# Altium footprint library AMSComponents.PcbLib: 22 footprints (part 2 of 2)
Each footprint in its own frame and in the unit in brackets; x right, y up, seen from the top. Pads: shape width x height; smd on the part's side, far side on the other; paste and mask are expansions set on the pad; w line width, h text height; cw(c..) or ccw(c..) is an arc to the next point about the centre after c.
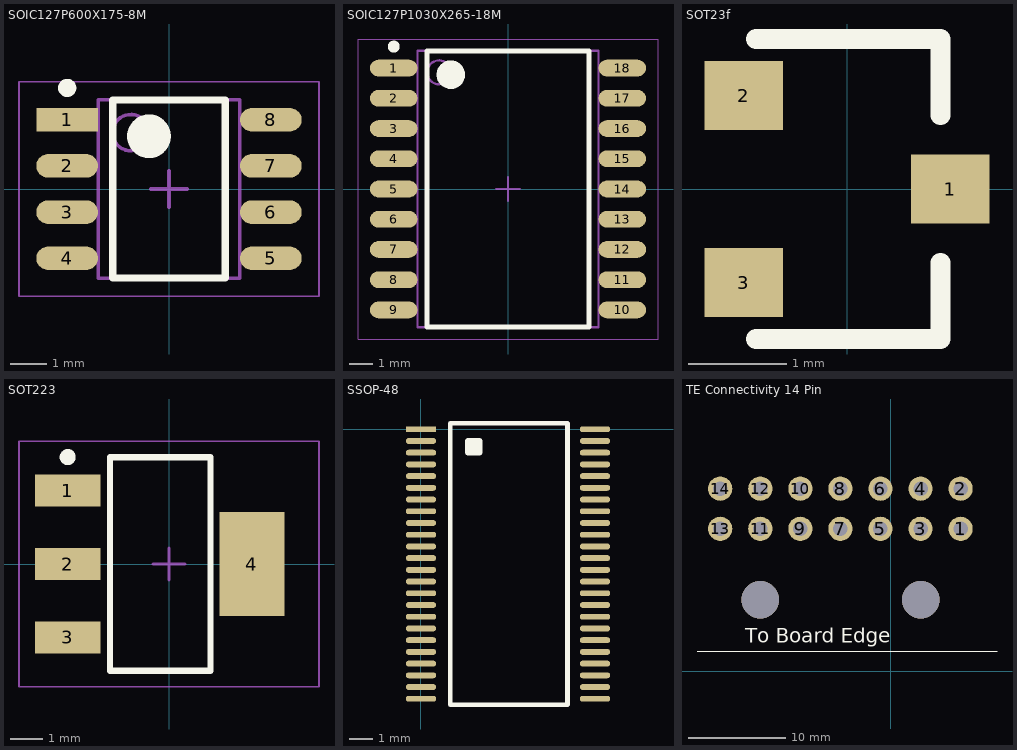
[diagram p1: the footprints below, top view; thin cyan lines are the x and y axes]

## SOIC127P600X175-8M [mm] "SOIC, 8-Leads, Body 4.90x3.90mm, Pitch 1.27mm, IPC Low Density"
height 1.75
pads (8):
  rect 1.7x0.65 smd: 1(-2.8,1.905)
  oval 1.7x0.65 smd: 2(-2.8,0.635) 3(-2.8,-0.635) 4(-2.8,-1.905) 5(2.8,-1.905) 6(2.8,-0.635) 7(2.8,0.635) 8(2.8,1.905)
Top Overlay:
  circle w0.25: c-2.8,2.78 r0.125
  circle w0.6: c-0.55,1.45 r0.3
  lines w0.2: -1.55,-2.45 -1.55,2.45 1.55,2.45 1.55,-2.45 -1.55,-2.45
Mechanical 13:
  circle w0.1: c-1.05,1.55 r0.5
  lines w0.1: -1.95,-2.45 -1.95,2.45 1.95,2.45 1.95,-2.45 -1.95,-2.45
Mechanical 15:
  lines w0.05: -4.125,-2.95 -4.125,2.95 4.125,2.95 4.125,-2.95 -4.125,-2.95
  lines w0.1: -0.5,0 0.5,0 ; 0,-0.5 0,0.5
3D body: height 1.75, standoff 0.1, extent -1.95,-2.45 1.95,2.45

## SOIC127P1030X265-18M [mm] "SOIC, 18-Leads, Body 11.50x7.50mm, Pitch 1.27mm, IPC Low Density"
height 2.65
pads (18):
  oval 2x0.7 smd: 1(-4.8,5.08) 2(-4.8,3.81) 3(-4.8,2.54) 4(-4.8,1.27) 5(-4.8,0) 6(-4.8,-1.27) 7(-4.8,-2.54) 8(-4.8,-3.81) 9(-4.8,-5.08) 10(4.8,-5.08) 11(4.8,-3.81) 12(4.8,-2.54) 13(4.8,-1.27) 14(4.8,0) 15(4.8,1.27) 16(4.8,2.54) 17(4.8,3.81) 18(4.8,5.08)
Top Overlay:
  circle w0.25: c-4.8,5.98 r0.125
  circle w0.6: c-2.4,4.8 r0.3
  lines w0.2: -3.4,-5.8 -3.4,5.8 3.4,5.8 3.4,-5.8 -3.4,-5.8
Mechanical 13:
  circle w0.1: c-2.9,4.9 r0.5
  lines w0.1: -3.8,-5.8 -3.8,5.8 3.8,5.8 3.8,-5.8 -3.8,-5.8
Mechanical 15:
  lines w0.05: -6.3,-6.3 -6.3,6.3 6.3,6.3 6.3,-6.3 -6.3,-6.3
  lines w0.1: -0.5,0 0.5,0 ; 0,-0.5 0,0.5
3D body: height 2.65, standoff 0.1, extent -3.8,-5.8 3.8,5.8

## SOT23f [mm] "SOT23, 3-Leads, Body 2.90x2.40mm, Pitch 0.95mm, IPC Medium Density"
height 0.88
pads (3):
  rect 0.8x0.7 smd: 1(1.05,0) 2(-1.05,0.95) 3(-1.05,-0.95)
Top Overlay:
  lines w0.2: 0.95,-1.523 0.95,-0.75 ; 0.95,0.75 0.95,1.524
  lines w0.203: -0.923,-1.523 0.95,-1.523 ; -0.924,1.524 0.95,1.524

## SOT223 [mm] "SOT223, 4-Leads, Body 6.50x7.00mm (avg), Pitch 2.30mm, IPC Low Density"
height 1.8
pads (4):
  rect 2.05x1 smd: 1(-3.175,2.3) 2(-3.175,0) 3(-3.175,-2.3)
  rect 2.05x3.25 smd: 4(2.6,0)
Top Overlay:
  circle w0.25: c-3.175,3.35 r0.125
  lines w0.2: -1.85,-3.35 1.3,-3.35 1.3,3.35 -1.85,3.35 -1.85,-3.35
Mechanical 13:
  lines w0.1: -1.85,-3.35 1.3,-3.35 1.3,3.35 -1.85,3.35 -1.85,-3.35
Mechanical 15:
  lines w0.05: -4.7,-3.85 4.7,-3.85 4.7,3.85 -4.7,3.85 -4.7,-3.85
  lines w0.1: -0.5,0 0.5,0 ; 0,-0.5 0,0.5
3D body: height 1.8, standoff 0.02, extent -1.85,-3.35 1.3,3.35

## SSOP-48 [mm]
pads (48):
  rect 1.3x0.25 smd: 1(0,0)
  oval 1.3x0.25 smd: 2(0,-0.5) 3(0,-1) 4(0,-1.5) 5(0,-2) 6(0,-2.5) 7(0,-3) 8(0,-3.5) 9(0,-4) 10(0,-4.5) 11(0,-5) 12(0,-5.5) 13(0,-6) 14(0,-6.5) 15(0,-7) 16(0,-7.5) 17(0,-8) 18(0,-8.5) 19(0,-9) 20(0,-9.5) 21(0,-10) 22(0,-10.5) 23(0,-11) 24(0,-11.5) 25(7.425,-11.5) 26(7.425,-11) 27(7.425,-10.5) 28(7.425,-10) 29(7.425,-9.5) 30(7.425,-9) 31(7.425,-8.5) 32(7.425,-8) 33(7.425,-7.5) 34(7.425,-7) 35(7.425,-6.5) 36(7.425,-6) 37(7.425,-5.5) 38(7.425,-5) 39(7.425,-4.5) 40(7.425,-4) 41(7.425,-3.5) 42(7.425,-3) 43(7.425,-2.5) 44(7.425,-2) 45(7.425,-1.5) 46(7.425,-1) 47(7.425,-0.5) 48(7.425,0)
Top Overlay:
  lines w0.2: 6.25,-11.75 6.25,0.25 6,0.25 3.147,0.25 1.25,0.25 1.25,-1.045 1.25,-1.455 1.25,-3.295 1.25,-11.75 1.795,-11.75 6,-11.75 6.25,-11.75 ; 6.25,-11.75 6.25,-11.75
  lines w0.254: 2,-1 2.5,-1 ; 2,-1 2,-1 ; 2,-1 2,-0.5 ; 2,-0.75 2,-0.75 ; 2,-0.75 2,-0.75 ; 2,-0.75 2,-0.5 ; 2,-0.75 2.25,-0.75 ; 2,-0.5 2.25,-0.75 ; 2,-0.5 2.25,-0.5 ; 2,-0.5 2,-0.5 ; 2,-0.5 2,-0.5 ; 2,-0.5 2.5,-1 ; 2.25,-0.75 2.25,-0.5 ; 2.25,-0.5 2.5,-0.5 2.5,-1

## TE Connectivity 14 Pin [mm]
pads (14):
  round 2.5 hole 1.5: 1(7.24,14.7) 2(7.24,18.84) 3(3.1,14.7) 4(3.1,18.84) 5(-1.04,14.7) 6(-1.04,18.84) 7(-5.18,14.7) 8(-5.18,18.84) 9(-9.32,14.7) 10(-9.32,18.84) 11(-13.46,14.7) 12(-13.46,18.84) 13(-17.6,14.7) 14(-17.6,18.84)
via -13.46,7.36 diameter 3.87 hole 3.87
via 3.1,7.36 diameter 3.87 hole 3.87
Top Overlay:
  lines w0.1: -20,2.03 11,2.03
  text "To Board Edge" at -15,2.9 h1.52